# Altium integrated library FPGA Memories.IntLib: 600 symbols (part 1 of 6)
Pins are listed as number, name and electrical type; pins without a type are passive.

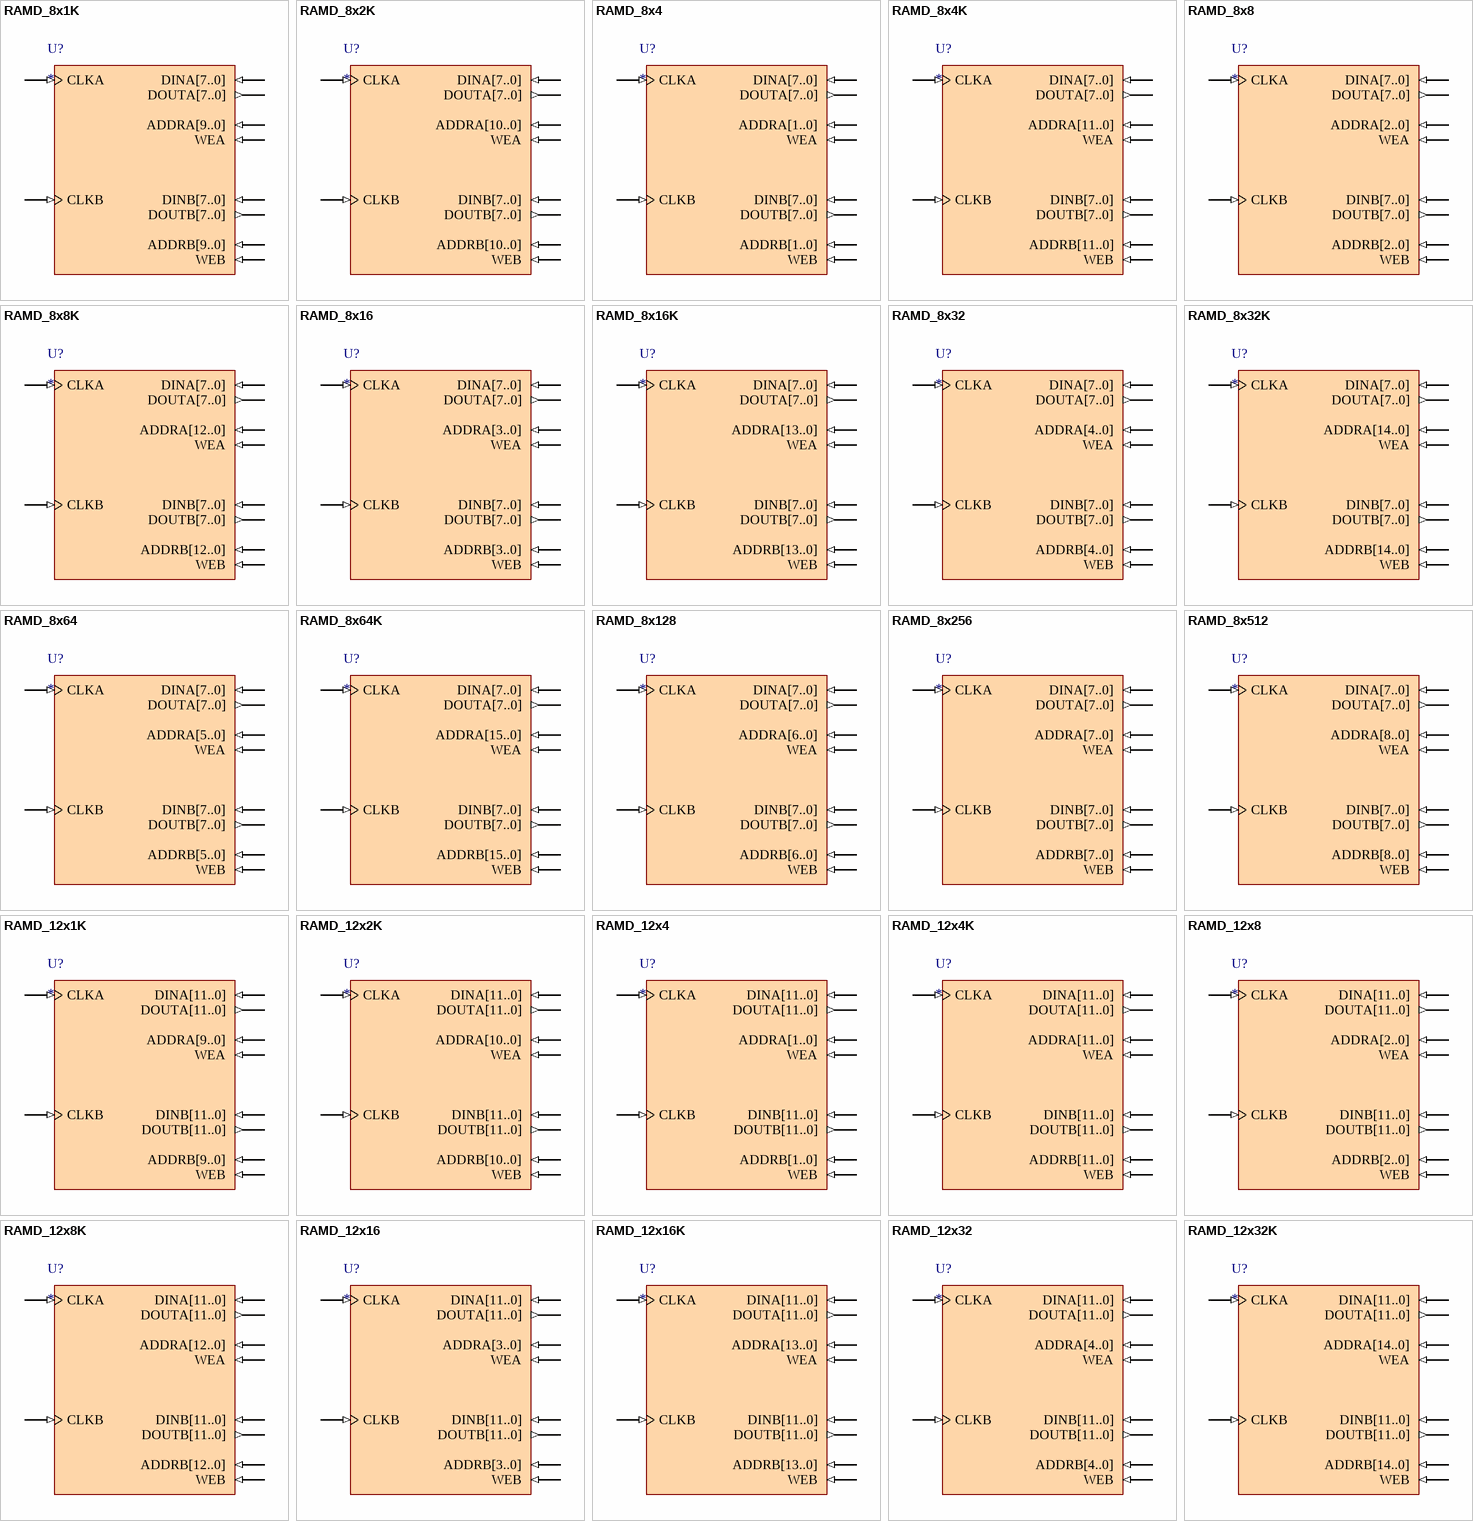
[diagram p0: symbols RAMD_8x1K to RAMD_12x32K]

## RAMD_8x1K
designator U?
Dual Port RAM; Memory_DepthA: 1024; Memory_Type: RAM_DualPortBlock; Memory_WidthA: 8; Memory_ClockEdge: Rising; Nexus_Core: Memory_Program; Memory_EnablePin: False; Published: 11/10/2004; Publisher: Altium Hobart Technology Center; Memory_DepthB: 1024; Memory_WidthB: 8; Memory_ByteWrites: False
pins: ADDRA[9..0] (in), ADDRB[9..0] (in), CLKA (in), CLKB (in), DINA[7..0] (in), DINB[7..0] (in), DOUTA[7..0] (out), DOUTB[7..0] (out), WEA (in), WEB (in)

## RAMD_8x2K
designator U?
Dual Port RAM; Memory_DepthA: 2048; Memory_Type: RAM_DualPortBlock; Memory_WidthA: 8; Memory_ClockEdge: Rising; Nexus_Core: Memory_Program; Memory_EnablePin: False; Published: 11/10/2004; Publisher: Altium Hobart Technology Center; Memory_DepthB: 2048; Memory_WidthB: 8; Memory_ByteWrites: False
pins: ADDRA[10..0] (in), ADDRB[10..0] (in), CLKA (in), CLKB (in), DINA[7..0] (in), DINB[7..0] (in), DOUTA[7..0] (out), DOUTB[7..0] (out), WEA (in), WEB (in)

## RAMD_8x4
designator U?
Dual Port RAM; Memory_DepthA: 4; Memory_Type: RAM_DualPortBlock; Memory_WidthA: 8; Memory_ClockEdge: Rising; Nexus_Core: Memory_Program; Memory_EnablePin: False; Published: 11/10/2004; Publisher: Altium Hobart Technology Center; Memory_DepthB: 4; Memory_WidthB: 8; Memory_ByteWrites: False
pins: ADDRA[1..0] (in), ADDRB[1..0] (in), CLKA (in), CLKB (in), DINA[7..0] (in), DINB[7..0] (in), DOUTA[7..0] (out), DOUTB[7..0] (out), WEA (in), WEB (in)

## RAMD_8x4K
designator U?
Dual Port RAM; Memory_DepthA: 4096; Memory_Type: RAM_DualPortBlock; Memory_WidthA: 8; Memory_ClockEdge: Rising; Nexus_Core: Memory_Program; Memory_EnablePin: False; Published: 11/10/2004; Publisher: Altium Hobart Technology Center; Memory_DepthB: 4096; Memory_WidthB: 8; Memory_ByteWrites: False
pins: ADDRA[11..0] (in), ADDRB[11..0] (in), CLKA (in), CLKB (in), DINA[7..0] (in), DINB[7..0] (in), DOUTA[7..0] (out), DOUTB[7..0] (out), WEA (in), WEB (in)

## RAMD_8x8
designator U?
Dual Port RAM; Memory_DepthA: 8; Memory_Type: RAM_DualPortBlock; Memory_ClockEdge: Rising; Nexus_Core: Memory_Program; Memory_EnablePin: False; Published: 11/10/2004; Publisher: Altium Hobart Technology Center; Memory_DepthB: 8; Memory_WidthA: 8; Memory_WidthB: 8; Memory_ByteWrites: False
pins: ADDRA[2..0] (in), ADDRB[2..0] (in), CLKA (in), CLKB (in), DINA[7..0] (in), DINB[7..0] (in), DOUTA[7..0] (out), DOUTB[7..0] (out), WEA (in), WEB (in)

## RAMD_8x8K
designator U?
Dual Port RAM; Memory_DepthA: 8192; Memory_Type: RAM_DualPortBlock; Memory_WidthA: 8; Memory_ClockEdge: Rising; Nexus_Core: Memory_Program; Memory_EnablePin: False; Published: 11/10/2004; Publisher: Altium Hobart Technology Center; Memory_DepthB: 8192; Memory_WidthB: 8; Memory_ByteWrites: False
pins: ADDRA[12..0] (in), ADDRB[12..0] (in), CLKA (in), CLKB (in), DINA[7..0] (in), DINB[7..0] (in), DOUTA[7..0] (out), DOUTB[7..0] (out), WEA (in), WEB (in)

## RAMD_8x16
designator U?
Dual Port RAM; Memory_DepthA: 16; Memory_Type: RAM_DualPortBlock; Memory_WidthA: 8; Memory_ClockEdge: Rising; Nexus_Core: Memory_Program; Memory_EnablePin: False; Published: 11/10/2004; Publisher: Altium Hobart Technology Center; Memory_DepthB: 16; Memory_WidthB: 8; Memory_ByteWrites: False
pins: ADDRA[3..0] (in), ADDRB[3..0] (in), CLKA (in), CLKB (in), DINA[7..0] (in), DINB[7..0] (in), DOUTA[7..0] (out), DOUTB[7..0] (out), WEA (in), WEB (in)

## RAMD_8x16K
designator U?
Dual Port RAM; Memory_DepthA: 16384; Memory_Type: RAM_DualPortBlock; Memory_WidthA: 8; Memory_ClockEdge: Rising; Nexus_Core: Memory_Program; Memory_EnablePin: False; Published: 11/10/2004; Publisher: Altium Hobart Technology Center; Memory_DepthB: 16384; Memory_WidthB: 8; Memory_ByteWrites: False
pins: ADDRA[13..0] (in), ADDRB[13..0] (in), CLKA (in), CLKB (in), DINA[7..0] (in), DINB[7..0] (in), DOUTA[7..0] (out), DOUTB[7..0] (out), WEA (in), WEB (in)

## RAMD_8x32
designator U?
Dual Port RAM; Memory_DepthA: 32; Memory_Type: RAM_DualPortBlock; Memory_WidthA: 8; Memory_ClockEdge: Rising; Nexus_Core: Memory_Program; Memory_EnablePin: False; Published: 11/10/2004; Publisher: Altium Hobart Technology Center; Memory_DepthB: 32; Memory_WidthB: 8; Memory_ByteWrites: False
pins: ADDRA[4..0] (in), ADDRB[4..0] (in), CLKA (in), CLKB (in), DINA[7..0] (in), DINB[7..0] (in), DOUTA[7..0] (out), DOUTB[7..0] (out), WEA (in), WEB (in)

## RAMD_8x32K
designator U?
Dual Port RAM; Memory_DepthA: 32768; Memory_Type: RAM_DualPortBlock; Memory_WidthA: 8; Memory_ClockEdge: Rising; Nexus_Core: Memory_Program; Memory_EnablePin: False; Published: 11/10/2004; Publisher: Altium Hobart Technology Center; Memory_DepthB: 32768; Memory_WidthB: 8; Memory_ByteWrites: False
pins: ADDRA[14..0] (in), ADDRB[14..0] (in), CLKA (in), CLKB (in), DINA[7..0] (in), DINB[7..0] (in), DOUTA[7..0] (out), DOUTB[7..0] (out), WEA (in), WEB (in)

## RAMD_8x64
designator U?
Dual Port RAM; Memory_DepthA: 64; Memory_Type: RAM_DualPortBlock; Memory_WidthA: 8; Memory_ClockEdge: Rising; Nexus_Core: Memory_Program; Memory_EnablePin: False; Published: 11/10/2004; Publisher: Altium Hobart Technology Center; Memory_DepthB: 64; Memory_WidthB: 8; Memory_ByteWrites: False
pins: ADDRA[5..0] (in), ADDRB[5..0] (in), CLKA (in), CLKB (in), DINA[7..0] (in), DINB[7..0] (in), DOUTA[7..0] (out), DOUTB[7..0] (out), WEA (in), WEB (in)

## RAMD_8x64K
designator U?
Dual Port RAM; Memory_DepthA: 65536; Memory_Type: RAM_DualPortBlock; Memory_WidthA: 8; Memory_ClockEdge: Rising; Nexus_Core: Memory_Program; Memory_EnablePin: False; Published: 11/10/2004; Publisher: Altium Hobart Technology Center; Memory_DepthB: 65536; Memory_WidthB: 8; Memory_ByteWrites: False
pins: ADDRA[15..0] (in), ADDRB[15..0] (in), CLKA (in), CLKB (in), DINA[7..0] (in), DINB[7..0] (in), DOUTA[7..0] (out), DOUTB[7..0] (out), WEA (in), WEB (in)

## RAMD_8x128
designator U?
Dual Port RAM; Memory_DepthA: 128; Memory_Type: RAM_DualPortBlock; Memory_WidthA: 8; Memory_ClockEdge: Rising; Nexus_Core: Memory_Program; Memory_EnablePin: False; Published: 11/10/2004; Publisher: Altium Hobart Technology Center; Memory_DepthB: 128; Memory_WidthB: 8; Memory_ByteWrites: False
pins: ADDRA[6..0] (in), ADDRB[6..0] (in), CLKA (in), CLKB (in), DINA[7..0] (in), DINB[7..0] (in), DOUTA[7..0] (out), DOUTB[7..0] (out), WEA (in), WEB (in)

## RAMD_8x256
designator U?
Dual Port RAM; Memory_DepthA: 256; Memory_Type: RAM_DualPortBlock; Memory_WidthA: 8; Memory_ClockEdge: Rising; Nexus_Core: Memory_Program; Memory_EnablePin: False; Published: 11/10/2004; Publisher: Altium Hobart Technology Center; Memory_DepthB: 256; Memory_WidthB: 8; Memory_ByteWrites: False
pins: ADDRA[7..0] (in), ADDRB[7..0] (in), CLKA (in), CLKB (in), DINA[7..0] (in), DINB[7..0] (in), DOUTA[7..0] (out), DOUTB[7..0] (out), WEA (in), WEB (in)

## RAMD_8x512
designator U?
Dual Port RAM; Memory_DepthA: 512; Memory_Type: RAM_DualPortBlock; Memory_WidthA: 8; Memory_ClockEdge: Rising; Nexus_Core: Memory_Program; Memory_EnablePin: False; Published: 11/10/2004; Publisher: Altium Hobart Technology Center; Memory_DepthB: 512; Memory_WidthB: 8; Memory_ByteWrites: False
pins: ADDRA[8..0] (in), ADDRB[8..0] (in), CLKA (in), CLKB (in), DINA[7..0] (in), DINB[7..0] (in), DOUTA[7..0] (out), DOUTB[7..0] (out), WEA (in), WEB (in)

## RAMD_12x1K
designator U?
Dual Port RAM; Memory_DepthA: 1024; Memory_Type: RAM_DualPortBlock; Memory_WidthA: 12; Memory_ClockEdge: Rising; Nexus_Core: Memory_Program; Memory_EnablePin: False; Published: 11/10/2004; Publisher: Altium Hobart Technology Center; Memory_DepthB: 1024; Memory_WidthB: 12; Memory_ByteWrites: False
pins: ADDRA[9..0] (in), ADDRB[9..0] (in), CLKA (in), CLKB (in), DINA[11..0] (in), DINB[11..0] (in), DOUTA[11..0] (out), DOUTB[11..0] (out), WEA (in), WEB (in)

## RAMD_12x2K
designator U?
Dual Port RAM; Memory_DepthA: 2048; Memory_Type: RAM_DualPortBlock; Memory_WidthA: 12; Memory_ClockEdge: Rising; Nexus_Core: Memory_Program; Memory_EnablePin: False; Published: 11/10/2004; Publisher: Altium Hobart Technology Center; Memory_DepthB: 2048; Memory_WidthB: 12; Memory_ByteWrites: False
pins: ADDRA[10..0] (in), ADDRB[10..0] (in), CLKA (in), CLKB (in), DINA[11..0] (in), DINB[11..0] (in), DOUTA[11..0] (out), DOUTB[11..0] (out), WEA (in), WEB (in)

## RAMD_12x4
designator U?
Dual Port RAM; Memory_DepthA: 4; Memory_Type: RAM_DualPortBlock; Memory_WidthA: 12; Memory_ClockEdge: Rising; Nexus_Core: Memory_Program; Memory_EnablePin: False; Published: 11/10/2004; Publisher: Altium Hobart Technology Center; Memory_DepthB: 4; Memory_WidthB: 12; Memory_ByteWrites: False
pins: ADDRA[1..0] (in), ADDRB[1..0] (in), CLKA (in), CLKB (in), DINA[11..0] (in), DINB[11..0] (in), DOUTA[11..0] (out), DOUTB[11..0] (out), WEA (in), WEB (in)

## RAMD_12x4K
designator U?
Dual Port RAM; Memory_DepthA: 4096; Memory_Type: RAM_DualPortBlock; Memory_WidthA: 12; Memory_ClockEdge: Rising; Nexus_Core: Memory_Program; Memory_EnablePin: False; Published: 11/10/2004; Publisher: Altium Hobart Technology Center; Memory_DepthB: 4096; Memory_WidthB: 12; Memory_ByteWrites: False
pins: ADDRA[11..0] (in), ADDRB[11..0] (in), CLKA (in), CLKB (in), DINA[11..0] (in), DINB[11..0] (in), DOUTA[11..0] (out), DOUTB[11..0] (out), WEA (in), WEB (in)

## RAMD_12x8
designator U?
Dual Port RAM; Memory_DepthA: 8; Memory_Type: RAM_DualPortBlock; Memory_WidthA: 12; Memory_ClockEdge: Rising; Nexus_Core: Memory_Program; Memory_EnablePin: False; Published: 11/10/2004; Publisher: Altium Hobart Technology Center; Memory_DepthB: 8; Memory_WidthB: 12; Memory_ByteWrites: False
pins: ADDRA[2..0] (in), ADDRB[2..0] (in), CLKA (in), CLKB (in), DINA[11..0] (in), DINB[11..0] (in), DOUTA[11..0] (out), DOUTB[11..0] (out), WEA (in), WEB (in)

## RAMD_12x8K
designator U?
Dual Port RAM; Memory_DepthA: 8192; Memory_Type: RAM_DualPortBlock; Memory_WidthA: 12; Memory_ClockEdge: Rising; Nexus_Core: Memory_Program; Memory_EnablePin: False; Published: 11/10/2004; Publisher: Altium Hobart Technology Center; Memory_DepthB: 8192; Memory_WidthB: 12; Memory_ByteWrites: False
pins: ADDRA[12..0] (in), ADDRB[12..0] (in), CLKA (in), CLKB (in), DINA[11..0] (in), DINB[11..0] (in), DOUTA[11..0] (out), DOUTB[11..0] (out), WEA (in), WEB (in)

## RAMD_12x16
designator U?
Dual Port RAM; Memory_DepthA: 16; Memory_Type: RAM_DualPortBlock; Memory_WidthA: 12; Memory_ClockEdge: Rising; Nexus_Core: Memory_Program; Memory_EnablePin: False; Published: 11/10/2004; Publisher: Altium Hobart Technology Center; Memory_DepthB: 16; Memory_WidthB: 12; Memory_ByteWrites: False
pins: ADDRA[3..0] (in), ADDRB[3..0] (in), CLKA (in), CLKB (in), DINA[11..0] (in), DINB[11..0] (in), DOUTA[11..0] (out), DOUTB[11..0] (out), WEA (in), WEB (in)

## RAMD_12x16K
designator U?
Dual Port RAM; Memory_DepthA: 16384; Memory_Type: RAM_DualPortBlock; Memory_WidthA: 12; Memory_ClockEdge: Rising; Nexus_Core: Memory_Program; Memory_EnablePin: False; Published: 11/10/2004; Publisher: Altium Hobart Technology Center; Memory_DepthB: 16384; Memory_WidthB: 12; Memory_ByteWrites: False
pins: ADDRA[13..0] (in), ADDRB[13..0] (in), CLKA (in), CLKB (in), DINA[11..0] (in), DINB[11..0] (in), DOUTA[11..0] (out), DOUTB[11..0] (out), WEA (in), WEB (in)

## RAMD_12x32
designator U?
Dual Port RAM; Memory_DepthA: 32; Memory_Type: RAM_DualPortBlock; Memory_WidthA: 12; Memory_ClockEdge: Rising; Nexus_Core: Memory_Program; Memory_EnablePin: False; Published: 11/10/2004; Publisher: Altium Hobart Technology Center; Memory_DepthB: 32; Memory_WidthB: 12; Memory_ByteWrites: False
pins: ADDRA[4..0] (in), ADDRB[4..0] (in), CLKA (in), CLKB (in), DINA[11..0] (in), DINB[11..0] (in), DOUTA[11..0] (out), DOUTB[11..0] (out), WEA (in), WEB (in)

## RAMD_12x32K
designator U?
Dual Port RAM; Memory_DepthA: 32768; Memory_Type: RAM_DualPortBlock; Memory_WidthA: 12; Memory_ClockEdge: Rising; Nexus_Core: Memory_Program; Memory_EnablePin: False; Published: 11/10/2004; Publisher: Altium Hobart Technology Center; Memory_DepthB: 32768; Memory_WidthB: 12; Memory_ByteWrites: False
pins: ADDRA[14..0] (in), ADDRB[14..0] (in), CLKA (in), CLKB (in), DINA[11..0] (in), DINB[11..0] (in), DOUTA[11..0] (out), DOUTB[11..0] (out), WEA (in), WEB (in)

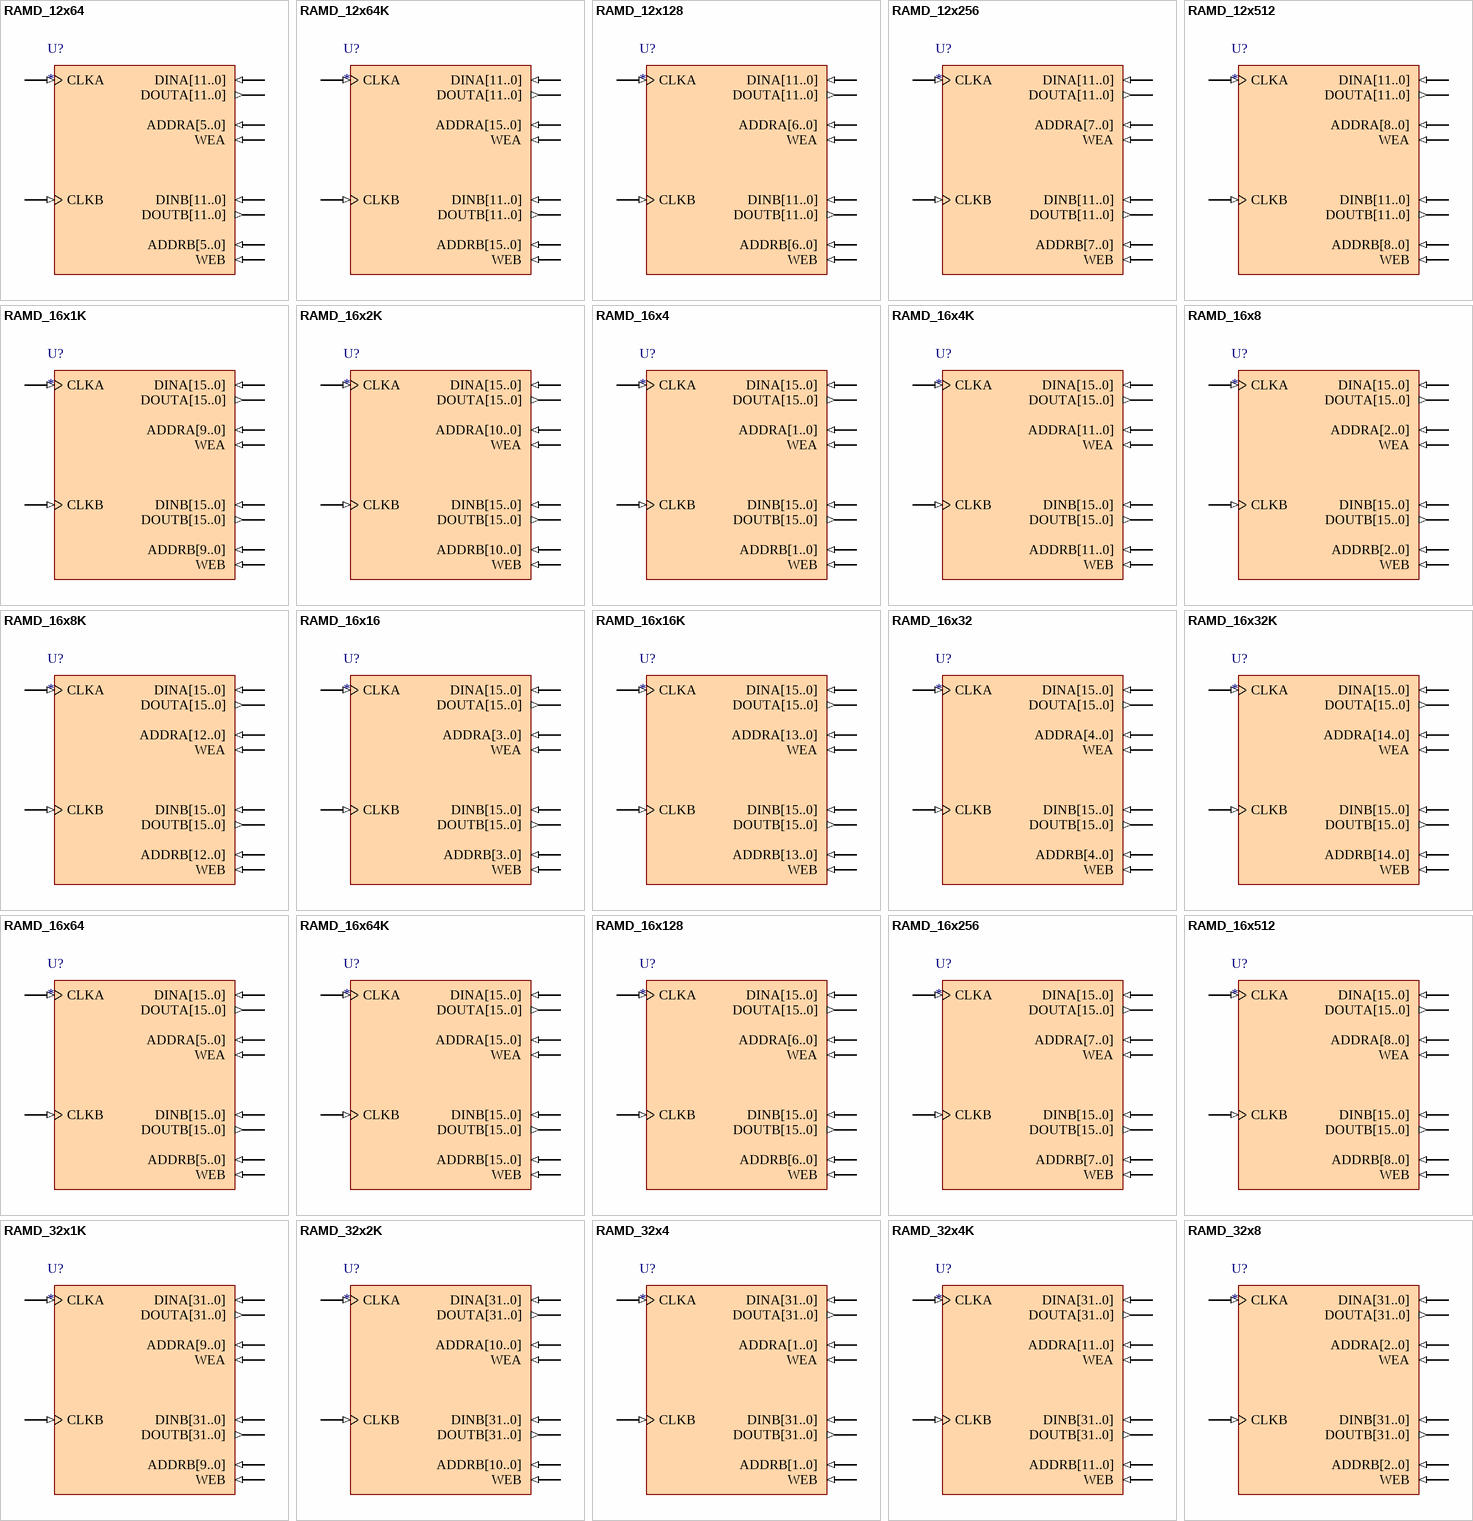
[diagram p1: symbols RAMD_12x64 to RAMD_32x8]

## RAMD_12x64
designator U?
Dual Port RAM; Memory_DepthA: 64; Memory_Type: RAM_DualPortBlock; Memory_WidthA: 12; Memory_ClockEdge: Rising; Nexus_Core: Memory_Program; Memory_EnablePin: False; Published: 11/10/2004; Publisher: Altium Hobart Technology Center; Memory_DepthB: 64; Memory_WidthB: 12; Memory_ByteWrites: False
pins: ADDRA[5..0] (in), ADDRB[5..0] (in), CLKA (in), CLKB (in), DINA[11..0] (in), DINB[11..0] (in), DOUTA[11..0] (out), DOUTB[11..0] (out), WEA (in), WEB (in)

## RAMD_12x64K
designator U?
Dual Port RAM; Memory_DepthA: 65536; Memory_Type: RAM_DualPortBlock; Memory_WidthA: 12; Memory_ClockEdge: Rising; Nexus_Core: Memory_Program; Memory_EnablePin: False; Published: 11/10/2004; Publisher: Altium Hobart Technology Center; Memory_DepthB: 65536; Memory_WidthB: 12; Memory_ByteWrites: False
pins: ADDRA[15..0] (in), ADDRB[15..0] (in), CLKA (in), CLKB (in), DINA[11..0] (in), DINB[11..0] (in), DOUTA[11..0] (out), DOUTB[11..0] (out), WEA (in), WEB (in)

## RAMD_12x128
designator U?
Dual Port RAM; Memory_DepthA: 128; Memory_Type: RAM_DualPortBlock; Memory_WidthA: 12; Memory_ClockEdge: Rising; Nexus_Core: Memory_Program; Memory_EnablePin: False; Published: 11/10/2004; Publisher: Altium Hobart Technology Center; Memory_DepthB: 128; Memory_WidthB: 12; Memory_ByteWrites: False
pins: ADDRA[6..0] (in), ADDRB[6..0] (in), CLKA (in), CLKB (in), DINA[11..0] (in), DINB[11..0] (in), DOUTA[11..0] (out), DOUTB[11..0] (out), WEA (in), WEB (in)

## RAMD_12x256
designator U?
Dual Port RAM; Memory_DepthA: 256; Memory_Type: RAM_DualPortBlock; Memory_WidthA: 12; Memory_ClockEdge: Rising; Nexus_Core: Memory_Program; Memory_EnablePin: False; Published: 11/10/2004; Publisher: Altium Hobart Technology Center; Memory_DepthB: 256; Memory_WidthB: 12; Memory_ByteWrites: False
pins: ADDRA[7..0] (in), ADDRB[7..0] (in), CLKA (in), CLKB (in), DINA[11..0] (in), DINB[11..0] (in), DOUTA[11..0] (out), DOUTB[11..0] (out), WEA (in), WEB (in)

## RAMD_12x512
designator U?
Dual Port RAM; Memory_DepthA: 512; Memory_Type: RAM_DualPortBlock; Memory_WidthA: 12; Memory_ClockEdge: Rising; Nexus_Core: Memory_Program; Memory_EnablePin: False; Published: 11/10/2004; Publisher: Altium Hobart Technology Center; Memory_DepthB: 512; Memory_WidthB: 12; Memory_ByteWrites: False
pins: ADDRA[8..0] (in), ADDRB[8..0] (in), CLKA (in), CLKB (in), DINA[11..0] (in), DINB[11..0] (in), DOUTA[11..0] (out), DOUTB[11..0] (out), WEA (in), WEB (in)

## RAMD_16x1K
designator U?
Dual Port RAM; Memory_DepthA: 1024; Memory_Type: RAM_DualPortBlock; Memory_WidthA: 16; Memory_ClockEdge: Rising; Nexus_Core: Memory_Program; Memory_EnablePin: False; Published: 11/10/2004; Publisher: Altium Hobart Technology Center; Memory_DepthB: 1024; Memory_WidthB: 16; Memory_ByteWrites: False
pins: ADDRA[9..0] (in), ADDRB[9..0] (in), CLKA (in), CLKB (in), DINA[15..0] (in), DINB[15..0] (in), DOUTA[15..0] (out), DOUTB[15..0] (out), WEA (in), WEB (in)

## RAMD_16x2K
designator U?
Dual Port RAM; Memory_DepthA: 2048; Memory_Type: RAM_DualPortBlock; Memory_WidthA: 16; Memory_ClockEdge: Rising; Nexus_Core: Memory_Program; Memory_EnablePin: False; Published: 11/10/2004; Publisher: Altium Hobart Technology Center; Memory_DepthB: 2048; Memory_WidthB: 16; Memory_ByteWrites: False
pins: ADDRA[10..0] (in), ADDRB[10..0] (in), CLKA (in), CLKB (in), DINA[15..0] (in), DINB[15..0] (in), DOUTA[15..0] (out), DOUTB[15..0] (out), WEA (in), WEB (in)

## RAMD_16x4
designator U?
Dual Port RAM; Memory_DepthA: 4; Memory_Type: RAM_DualPortBlock; Memory_WidthA: 16; Memory_ClockEdge: Rising; Nexus_Core: Memory_Program; Memory_EnablePin: False; Published: 11/10/2004; Publisher: Altium Hobart Technology Center; Memory_DepthB: 4; Memory_WidthB: 16; Memory_ByteWrites: False
pins: ADDRA[1..0] (in), ADDRB[1..0] (in), CLKA (in), CLKB (in), DINA[15..0] (in), DINB[15..0] (in), DOUTA[15..0] (out), DOUTB[15..0] (out), WEA (in), WEB (in)

## RAMD_16x4K
designator U?
Dual Port RAM; Memory_DepthA: 4096; Memory_Type: RAM_DualPortBlock; Memory_WidthA: 16; Memory_ClockEdge: Rising; Nexus_Core: Memory_Program; Memory_EnablePin: False; Published: 11/10/2004; Publisher: Altium Hobart Technology Center; Memory_DepthB: 4096; Memory_WidthB: 16; Memory_ByteWrites: False
pins: ADDRA[11..0] (in), ADDRB[11..0] (in), CLKA (in), CLKB (in), DINA[15..0] (in), DINB[15..0] (in), DOUTA[15..0] (out), DOUTB[15..0] (out), WEA (in), WEB (in)

## RAMD_16x8
designator U?
Dual Port RAM; Memory_DepthA: 8; Memory_Type: RAM_DualPortBlock; Memory_WidthA: 16; Memory_ClockEdge: Rising; Nexus_Core: Memory_Program; Memory_EnablePin: False; Published: 11/10/2004; Publisher: Altium Hobart Technology Center; Memory_DepthB: 8; Memory_WidthB: 16; Memory_ByteWrites: False
pins: ADDRA[2..0] (in), ADDRB[2..0] (in), CLKA (in), CLKB (in), DINA[15..0] (in), DINB[15..0] (in), DOUTA[15..0] (out), DOUTB[15..0] (out), WEA (in), WEB (in)

## RAMD_16x8K
designator U?
Dual Port RAM; Memory_DepthA: 8192; Memory_Type: RAM_DualPortBlock; Memory_WidthA: 16; Memory_ClockEdge: Rising; Nexus_Core: Memory_Program; Memory_EnablePin: False; Published: 11/10/2004; Publisher: Altium Hobart Technology Center; Memory_DepthB: 8192; Memory_WidthB: 16; Memory_ByteWrites: False
pins: ADDRA[12..0] (in), ADDRB[12..0] (in), CLKA (in), CLKB (in), DINA[15..0] (in), DINB[15..0] (in), DOUTA[15..0] (out), DOUTB[15..0] (out), WEA (in), WEB (in)

## RAMD_16x16
designator U?
Dual Port RAM; Memory_DepthA: 16; Memory_Type: RAM_DualPortBlock; Memory_ClockEdge: Rising; Nexus_Core: Memory_Program; Memory_EnablePin: False; Published: 11/10/2004; Publisher: Altium Hobart Technology Center; Memory_DepthB: 16; Memory_WidthA: 16; Memory_WidthB: 16; Memory_ByteWrites: False
pins: ADDRA[3..0] (in), ADDRB[3..0] (in), CLKA (in), CLKB (in), DINA[15..0] (in), DINB[15..0] (in), DOUTA[15..0] (out), DOUTB[15..0] (out), WEA (in), WEB (in)

## RAMD_16x16K
designator U?
Dual Port RAM; Memory_DepthA: 16384; Memory_Type: RAM_DualPortBlock; Memory_WidthA: 16; Memory_ClockEdge: Rising; Nexus_Core: Memory_Program; Memory_EnablePin: False; Published: 11/10/2004; Publisher: Altium Hobart Technology Center; Memory_DepthB: 16384; Memory_WidthB: 16; Memory_ByteWrites: False
pins: ADDRA[13..0] (in), ADDRB[13..0] (in), CLKA (in), CLKB (in), DINA[15..0] (in), DINB[15..0] (in), DOUTA[15..0] (out), DOUTB[15..0] (out), WEA (in), WEB (in)

## RAMD_16x32
designator U?
Dual Port RAM; Memory_DepthA: 32; Memory_Type: RAM_DualPortBlock; Memory_WidthA: 16; Memory_ClockEdge: Rising; Nexus_Core: Memory_Program; Memory_EnablePin: False; Published: 11/10/2004; Publisher: Altium Hobart Technology Center; Memory_DepthB: 32; Memory_WidthB: 16; Memory_ByteWrites: False
pins: ADDRA[4..0] (in), ADDRB[4..0] (in), CLKA (in), CLKB (in), DINA[15..0] (in), DINB[15..0] (in), DOUTA[15..0] (out), DOUTB[15..0] (out), WEA (in), WEB (in)

## RAMD_16x32K
designator U?
Dual Port RAM; Memory_DepthA: 32768; Memory_Type: RAM_DualPortBlock; Memory_WidthA: 16; Memory_ClockEdge: Rising; Nexus_Core: Memory_Program; Memory_EnablePin: False; Published: 11/10/2004; Publisher: Altium Hobart Technology Center; Memory_DepthB: 32768; Memory_WidthB: 16; Memory_ByteWrites: False
pins: ADDRA[14..0] (in), ADDRB[14..0] (in), CLKA (in), CLKB (in), DINA[15..0] (in), DINB[15..0] (in), DOUTA[15..0] (out), DOUTB[15..0] (out), WEA (in), WEB (in)

## RAMD_16x64
designator U?
Dual Port RAM; Memory_DepthA: 64; Memory_Type: RAM_DualPortBlock; Memory_WidthA: 16; Memory_ClockEdge: Rising; Nexus_Core: Memory_Program; Memory_EnablePin: False; Published: 11/10/2004; Publisher: Altium Hobart Technology Center; Memory_DepthB: 64; Memory_WidthB: 16; Memory_ByteWrites: False
pins: ADDRA[5..0] (in), ADDRB[5..0] (in), CLKA (in), CLKB (in), DINA[15..0] (in), DINB[15..0] (in), DOUTA[15..0] (out), DOUTB[15..0] (out), WEA (in), WEB (in)

## RAMD_16x64K
designator U?
Dual Port RAM; Memory_DepthA: 65536; Memory_Type: RAM_DualPortBlock; Memory_WidthA: 16; Memory_ClockEdge: Rising; Nexus_Core: Memory_Program; Memory_EnablePin: False; Published: 11/10/2004; Publisher: Altium Hobart Technology Center; Memory_DepthB: 65536; Memory_WidthB: 16; Memory_ByteWrites: False
pins: ADDRA[15..0] (in), ADDRB[15..0] (in), CLKA (in), CLKB (in), DINA[15..0] (in), DINB[15..0] (in), DOUTA[15..0] (out), DOUTB[15..0] (out), WEA (in), WEB (in)

## RAMD_16x128
designator U?
Dual Port RAM; Memory_DepthA: 128; Memory_Type: RAM_DualPortBlock; Memory_WidthA: 16; Memory_ClockEdge: Rising; Nexus_Core: Memory_Program; Memory_EnablePin: False; Published: 11/10/2004; Publisher: Altium Hobart Technology Center; Memory_DepthB: 128; Memory_WidthB: 16; Memory_ByteWrites: False
pins: ADDRA[6..0] (in), ADDRB[6..0] (in), CLKA (in), CLKB (in), DINA[15..0] (in), DINB[15..0] (in), DOUTA[15..0] (out), DOUTB[15..0] (out), WEA (in), WEB (in)

## RAMD_16x256
designator U?
Dual Port RAM; Memory_DepthA: 256; Memory_Type: RAM_DualPortBlock; Memory_WidthA: 16; Memory_ClockEdge: Rising; Nexus_Core: Memory_Program; Memory_EnablePin: False; Published: 11/10/2004; Publisher: Altium Hobart Technology Center; Memory_DepthB: 256; Memory_WidthB: 16; Memory_ByteWrites: False
pins: ADDRA[7..0] (in), ADDRB[7..0] (in), CLKA (in), CLKB (in), DINA[15..0] (in), DINB[15..0] (in), DOUTA[15..0] (out), DOUTB[15..0] (out), WEA (in), WEB (in)

## RAMD_16x512
designator U?
Dual Port RAM; Memory_DepthA: 512; Memory_Type: RAM_DualPortBlock; Memory_WidthA: 16; Memory_ClockEdge: Rising; Nexus_Core: Memory_Program; Memory_EnablePin: False; Published: 11/10/2004; Publisher: Altium Hobart Technology Center; Memory_DepthB: 512; Memory_WidthB: 16; Memory_ByteWrites: False
pins: ADDRA[8..0] (in), ADDRB[8..0] (in), CLKA (in), CLKB (in), DINA[15..0] (in), DINB[15..0] (in), DOUTA[15..0] (out), DOUTB[15..0] (out), WEA (in), WEB (in)

## RAMD_32x1K
designator U?
Dual Port RAM; Memory_DepthA: 1024; Memory_Type: RAM_DualPortBlock; Memory_WidthA: 32; Memory_ClockEdge: Rising; Nexus_Core: Memory_Program; Memory_EnablePin: False; Published: 11/10/2004; Publisher: Altium Hobart Technology Center; Memory_DepthB: 1024; Memory_WidthB: 32; Memory_ByteWrites: False
pins: ADDRA[9..0] (in), ADDRB[9..0] (in), CLKA (in), CLKB (in), DINA[31..0] (in), DINB[31..0] (in), DOUTA[31..0] (out), DOUTB[31..0] (out), WEA (in), WEB (in)

## RAMD_32x2K
designator U?
Dual Port RAM; Memory_DepthA: 2048; Memory_Type: RAM_DualPortBlock; Memory_WidthA: 32; Memory_ClockEdge: Rising; Nexus_Core: Memory_Program; Memory_EnablePin: False; Published: 11/10/2004; Publisher: Altium Hobart Technology Center; Memory_DepthB: 2048; Memory_WidthB: 32; Memory_ByteWrites: False
pins: ADDRA[10..0] (in), ADDRB[10..0] (in), CLKA (in), CLKB (in), DINA[31..0] (in), DINB[31..0] (in), DOUTA[31..0] (out), DOUTB[31..0] (out), WEA (in), WEB (in)

## RAMD_32x4
designator U?
Dual Port RAM; Memory_DepthA: 4; Memory_Type: RAM_DualPortBlock; Memory_WidthA: 32; Memory_ClockEdge: Rising; Nexus_Core: Memory_Program; Memory_EnablePin: False; Published: 11/10/2004; Publisher: Altium Hobart Technology Center; Memory_DepthB: 4; Memory_WidthB: 32; Memory_ByteWrites: False
pins: ADDRA[1..0] (in), ADDRB[1..0] (in), CLKA (in), CLKB (in), DINA[31..0] (in), DINB[31..0] (in), DOUTA[31..0] (out), DOUTB[31..0] (out), WEA (in), WEB (in)

## RAMD_32x4K
designator U?
Dual Port RAM; Memory_DepthA: 4096; Memory_Type: RAM_DualPortBlock; Memory_WidthA: 32; Memory_ClockEdge: Rising; Nexus_Core: Memory_Program; Memory_EnablePin: False; Published: 11/10/2004; Publisher: Altium Hobart Technology Center; Memory_DepthB: 4096; Memory_WidthB: 32; Memory_ByteWrites: False
pins: ADDRA[11..0] (in), ADDRB[11..0] (in), CLKA (in), CLKB (in), DINA[31..0] (in), DINB[31..0] (in), DOUTA[31..0] (out), DOUTB[31..0] (out), WEA (in), WEB (in)

## RAMD_32x8
designator U?
Dual Port RAM; Memory_DepthA: 8; Memory_Type: RAM_DualPortBlock; Memory_WidthA: 32; Memory_ClockEdge: Rising; Nexus_Core: Memory_Program; Memory_EnablePin: False; Published: 11/10/2004; Publisher: Altium Hobart Technology Center; Memory_DepthB: 8; Memory_WidthB: 32; Memory_ByteWrites: False
pins: ADDRA[2..0] (in), ADDRB[2..0] (in), CLKA (in), CLKB (in), DINA[31..0] (in), DINB[31..0] (in), DOUTA[31..0] (out), DOUTB[31..0] (out), WEA (in), WEB (in)

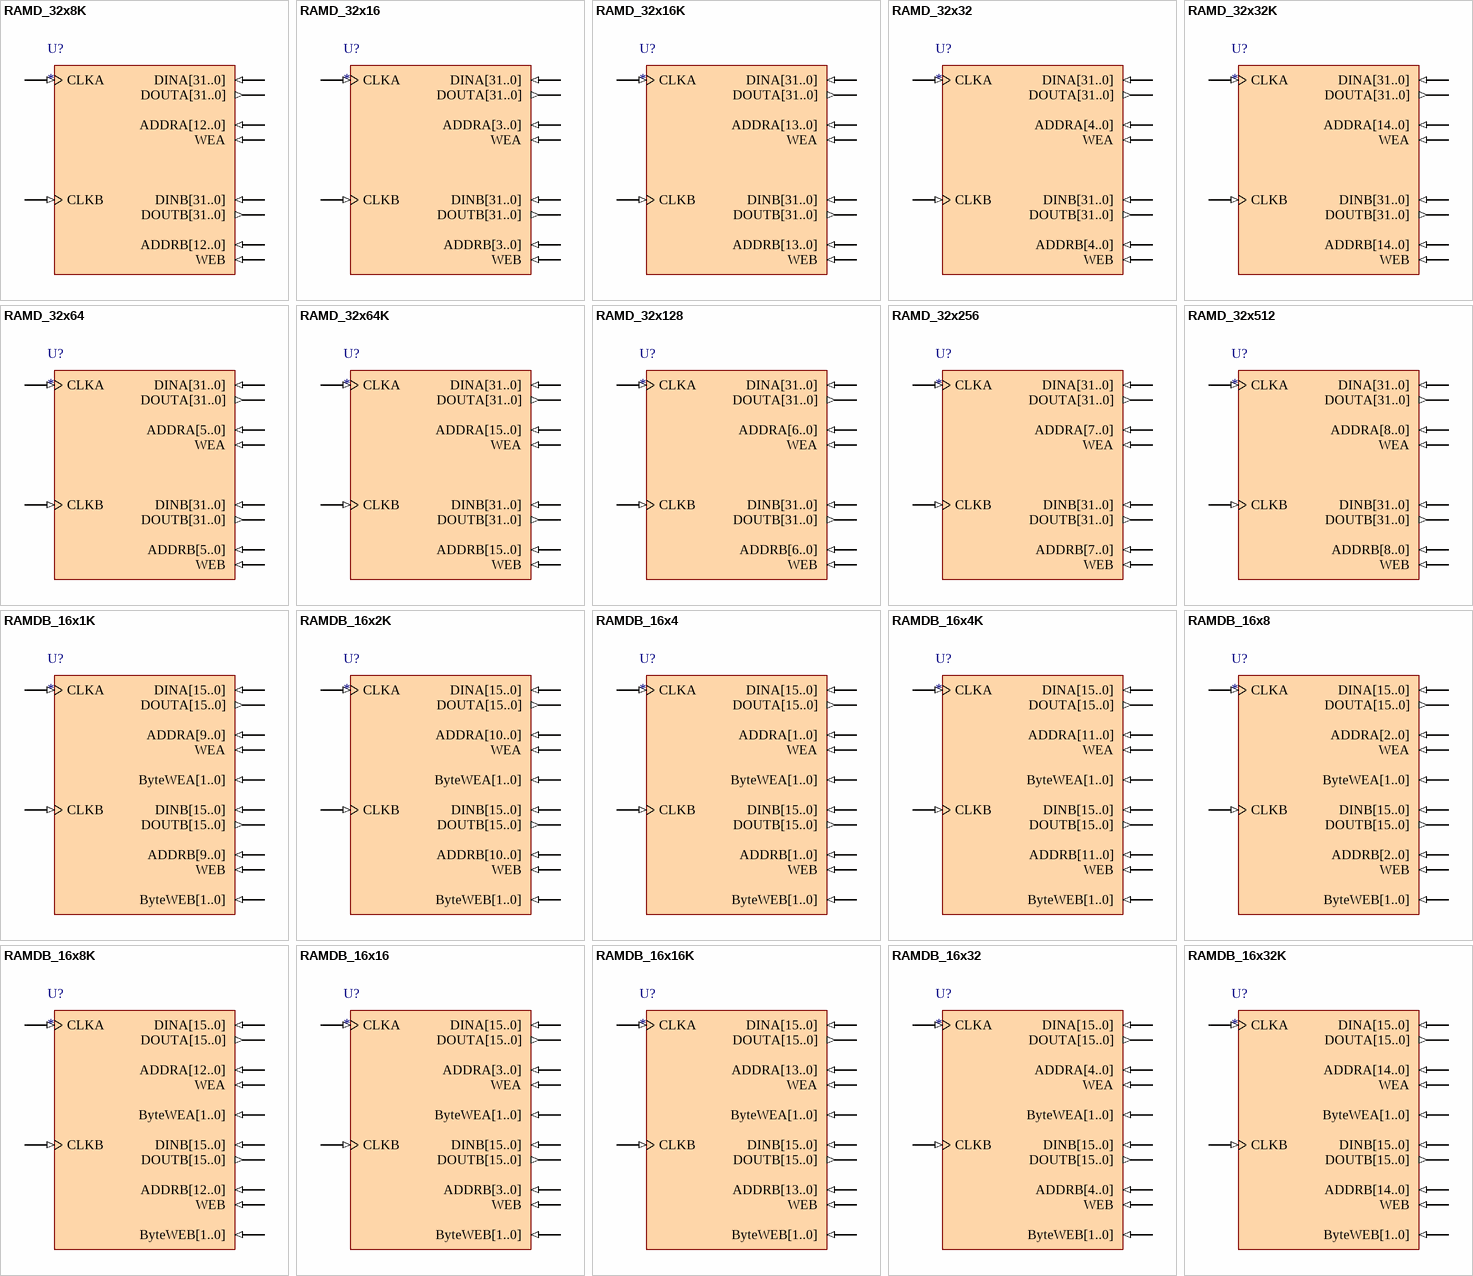
[diagram p2: symbols RAMD_32x8K to RAMDB_16x32K]

## RAMD_32x8K
designator U?
Dual Port RAM; Memory_DepthA: 8192; Memory_Type: RAM_DualPortBlock; Memory_WidthA: 32; Memory_ClockEdge: Rising; Nexus_Core: Memory_Program; Memory_EnablePin: False; Published: 11/10/2004; Publisher: Altium Hobart Technology Center; Memory_DepthB: 8192; Memory_WidthB: 32; Memory_ByteWrites: False
pins: ADDRA[12..0] (in), ADDRB[12..0] (in), CLKA (in), CLKB (in), DINA[31..0] (in), DINB[31..0] (in), DOUTA[31..0] (out), DOUTB[31..0] (out), WEA (in), WEB (in)

## RAMD_32x16
designator U?
Dual Port RAM; Memory_DepthA: 16; Memory_Type: RAM_DualPortBlock; Memory_WidthA: 32; Memory_ClockEdge: Rising; Nexus_Core: Memory_Program; Memory_EnablePin: False; Published: 11/10/2004; Publisher: Altium Hobart Technology Center; Memory_DepthB: 16; Memory_WidthB: 32; Memory_ByteWrites: False
pins: ADDRA[3..0] (in), ADDRB[3..0] (in), CLKA (in), CLKB (in), DINA[31..0] (in), DINB[31..0] (in), DOUTA[31..0] (out), DOUTB[31..0] (out), WEA (in), WEB (in)

## RAMD_32x16K
designator U?
Dual Port RAM; Memory_DepthA: 16384; Memory_Type: RAM_DualPortBlock; Memory_WidthA: 32; Memory_ClockEdge: Rising; Nexus_Core: Memory_Program; Memory_EnablePin: False; Published: 11/10/2004; Publisher: Altium Hobart Technology Center; Memory_DepthB: 16384; Memory_WidthB: 32; Memory_ByteWrites: False
pins: ADDRA[13..0] (in), ADDRB[13..0] (in), CLKA (in), CLKB (in), DINA[31..0] (in), DINB[31..0] (in), DOUTA[31..0] (out), DOUTB[31..0] (out), WEA (in), WEB (in)

## RAMD_32x32
designator U?
Dual Port RAM; Memory_DepthA: 32; Memory_Type: RAM_DualPortBlock; Memory_ClockEdge: Rising; Nexus_Core: Memory_Program; Memory_EnablePin: False; Published: 11/10/2004; Publisher: Altium Hobart Technology Center; Memory_DepthB: 32; Memory_WidthA: 32; Memory_WidthB: 32; Memory_ByteWrites: False
pins: ADDRA[4..0] (in), ADDRB[4..0] (in), CLKA (in), CLKB (in), DINA[31..0] (in), DINB[31..0] (in), DOUTA[31..0] (out), DOUTB[31..0] (out), WEA (in), WEB (in)

## RAMD_32x32K
designator U?
Dual Port RAM; Memory_DepthA: 32768; Memory_Type: RAM_DualPortBlock; Memory_WidthA: 32; Memory_ClockEdge: Rising; Nexus_Core: Memory_Program; Memory_EnablePin: False; Published: 11/10/2004; Publisher: Altium Hobart Technology Center; Memory_DepthB: 32768; Memory_WidthB: 32; Memory_ByteWrites: False
pins: ADDRA[14..0] (in), ADDRB[14..0] (in), CLKA (in), CLKB (in), DINA[31..0] (in), DINB[31..0] (in), DOUTA[31..0] (out), DOUTB[31..0] (out), WEA (in), WEB (in)

## RAMD_32x64
designator U?
Dual Port RAM; Memory_DepthA: 64; Memory_Type: RAM_DualPortBlock; Memory_WidthA: 32; Memory_ClockEdge: Rising; Nexus_Core: Memory_Program; Memory_EnablePin: False; Published: 11/10/2004; Publisher: Altium Hobart Technology Center; Memory_DepthB: 64; Memory_WidthB: 32; Memory_ByteWrites: False
pins: ADDRA[5..0] (in), ADDRB[5..0] (in), CLKA (in), CLKB (in), DINA[31..0] (in), DINB[31..0] (in), DOUTA[31..0] (out), DOUTB[31..0] (out), WEA (in), WEB (in)

## RAMD_32x64K
designator U?
Dual Port RAM; Memory_DepthA: 65536; Memory_Type: RAM_DualPortBlock; Memory_WidthA: 32; Memory_ClockEdge: Rising; Nexus_Core: Memory_Program; Memory_EnablePin: False; Published: 11/10/2004; Publisher: Altium Hobart Technology Center; Memory_DepthB: 65536; Memory_WidthB: 32; Memory_ByteWrites: False
pins: ADDRA[15..0] (in), ADDRB[15..0] (in), CLKA (in), CLKB (in), DINA[31..0] (in), DINB[31..0] (in), DOUTA[31..0] (out), DOUTB[31..0] (out), WEA (in), WEB (in)

## RAMD_32x128
designator U?
Dual Port RAM; Memory_DepthA: 128; Memory_Type: RAM_DualPortBlock; Memory_WidthA: 32; Memory_ClockEdge: Rising; Nexus_Core: Memory_Program; Memory_EnablePin: False; Published: 11/10/2004; Publisher: Altium Hobart Technology Center; Memory_DepthB: 128; Memory_WidthB: 32; Memory_ByteWrites: False
pins: ADDRA[6..0] (in), ADDRB[6..0] (in), CLKA (in), CLKB (in), DINA[31..0] (in), DINB[31..0] (in), DOUTA[31..0] (out), DOUTB[31..0] (out), WEA (in), WEB (in)

## RAMD_32x256
designator U?
Dual Port RAM; Memory_DepthA: 256; Memory_Type: RAM_DualPortBlock; Memory_WidthA: 32; Memory_ClockEdge: Rising; Nexus_Core: Memory_Program; Memory_EnablePin: False; Published: 11/10/2004; Publisher: Altium Hobart Technology Center; Memory_DepthB: 256; Memory_WidthB: 32; Memory_ByteWrites: False
pins: ADDRA[7..0] (in), ADDRB[7..0] (in), CLKA (in), CLKB (in), DINA[31..0] (in), DINB[31..0] (in), DOUTA[31..0] (out), DOUTB[31..0] (out), WEA (in), WEB (in)

## RAMD_32x512
designator U?
Dual Port RAM; Memory_DepthA: 512; Memory_Type: RAM_DualPortBlock; Memory_WidthA: 32; Memory_ClockEdge: Rising; Nexus_Core: Memory_Program; Memory_EnablePin: False; Published: 11/10/2004; Publisher: Altium Hobart Technology Center; Memory_DepthB: 512; Memory_WidthB: 32; Memory_ByteWrites: False
pins: ADDRA[8..0] (in), ADDRB[8..0] (in), CLKA (in), CLKB (in), DINA[31..0] (in), DINB[31..0] (in), DOUTA[31..0] (out), DOUTB[31..0] (out), WEA (in), WEB (in)

## RAMDB_16x1K
designator U?
Dual Port RAM, Byte Write Enable; Memory_DepthA: 1024; Memory_Type: RAM_DualPortBlock; Memory_WidthA: 16; Memory_ClockEdge: Rising; Nexus_Core: Memory_Program; Memory_EnablePin: False; Memory_ByteWrites: True; Published: 11/10/2004; Publisher: Altium Hobart Technology Center; Memory_DepthB: 1024; Memory_WidthB: 16
pins: ADDRA[9..0] (in), ADDRB[9..0] (in), ByteWEA[1..0] (in), ByteWEB[1..0] (in), CLKA (in), CLKB (in), DINA[15..0] (in), DINB[15..0] (in), DOUTA[15..0] (out), DOUTB[15..0] (out), WEA (in), WEB (in)

## RAMDB_16x2K
designator U?
Dual Port RAM, Byte Write Enable; Memory_DepthA: 2048; Memory_Type: RAM_DualPortBlock; Memory_WidthA: 16; Memory_ClockEdge: Rising; Nexus_Core: Memory_Program; Memory_EnablePin: False; Memory_ByteWrites: True; Published: 11/10/2004; Publisher: Altium Hobart Technology Center; Memory_DepthB: 2048; Memory_WidthB: 16
pins: ADDRA[10..0] (in), ADDRB[10..0] (in), ByteWEA[1..0] (in), ByteWEB[1..0] (in), CLKA (in), CLKB (in), DINA[15..0] (in), DINB[15..0] (in), DOUTA[15..0] (out), DOUTB[15..0] (out), WEA (in), WEB (in)

## RAMDB_16x4
designator U?
Dual Port RAM, Byte Write Enable; Memory_DepthA: 4; Memory_Type: RAM_DualPortBlock; Memory_WidthA: 16; Memory_ClockEdge: Rising; Nexus_Core: Memory_Program; Memory_EnablePin: False; Memory_ByteWrites: True; Published: 11/10/2004; Publisher: Altium Hobart Technology Center; Memory_DepthB: 4; Memory_WidthB: 16
pins: ADDRA[1..0] (in), ADDRB[1..0] (in), ByteWEA[1..0] (in), ByteWEB[1..0] (in), CLKA (in), CLKB (in), DINA[15..0] (in), DINB[15..0] (in), DOUTA[15..0] (out), DOUTB[15..0] (out), WEA (in), WEB (in)

## RAMDB_16x4K
designator U?
Dual Port RAM, Byte Write Enable; Memory_DepthA: 4096; Memory_Type: RAM_DualPortBlock; Memory_WidthA: 16; Memory_ClockEdge: Rising; Nexus_Core: Memory_Program; Memory_EnablePin: False; Memory_ByteWrites: True; Published: 11/10/2004; Publisher: Altium Hobart Technology Center; Memory_DepthB: 4096; Memory_WidthB: 16
pins: ADDRA[11..0] (in), ADDRB[11..0] (in), ByteWEA[1..0] (in), ByteWEB[1..0] (in), CLKA (in), CLKB (in), DINA[15..0] (in), DINB[15..0] (in), DOUTA[15..0] (out), DOUTB[15..0] (out), WEA (in), WEB (in)

## RAMDB_16x8
designator U?
Dual Port RAM, Byte Write Enable; Memory_DepthA: 8; Memory_Type: RAM_DualPortBlock; Memory_WidthA: 16; Memory_ClockEdge: Rising; Nexus_Core: Memory_Program; Memory_EnablePin: False; Memory_ByteWrites: True; Published: 11/10/2004; Publisher: Altium Hobart Technology Center; Memory_DepthB: 8; Memory_WidthB: 16
pins: ADDRA[2..0] (in), ADDRB[2..0] (in), ByteWEA[1..0] (in), ByteWEB[1..0] (in), CLKA (in), CLKB (in), DINA[15..0] (in), DINB[15..0] (in), DOUTA[15..0] (out), DOUTB[15..0] (out), WEA (in), WEB (in)

## RAMDB_16x8K
designator U?
Dual Port RAM, Byte Write Enable; Memory_DepthA: 8192; Memory_Type: RAM_DualPortBlock; Memory_WidthA: 16; Memory_ClockEdge: Rising; Nexus_Core: Memory_Program; Memory_EnablePin: False; Memory_ByteWrites: True; Published: 11/10/2004; Publisher: Altium Hobart Technology Center; Memory_DepthB: 8192; Memory_WidthB: 16
pins: ADDRA[12..0] (in), ADDRB[12..0] (in), ByteWEA[1..0] (in), ByteWEB[1..0] (in), CLKA (in), CLKB (in), DINA[15..0] (in), DINB[15..0] (in), DOUTA[15..0] (out), DOUTB[15..0] (out), WEA (in), WEB (in)

## RAMDB_16x16
designator U?
Dual Port RAM, Byte Write Enable; Memory_DepthA: 16; Memory_Type: RAM_DualPortBlock; Memory_ClockEdge: Rising; Nexus_Core: Memory_Program; Memory_EnablePin: False; Memory_ByteWrites: True; Published: 11/10/2004; Publisher: Altium Hobart Technology Center; Memory_DepthB: 16; Memory_WidthA: 16; Memory_WidthB: 16
pins: ADDRA[3..0] (in), ADDRB[3..0] (in), ByteWEA[1..0] (in), ByteWEB[1..0] (in), CLKA (in), CLKB (in), DINA[15..0] (in), DINB[15..0] (in), DOUTA[15..0] (out), DOUTB[15..0] (out), WEA (in), WEB (in)

## RAMDB_16x16K
designator U?
Dual Port RAM, Byte Write Enable; Memory_DepthA: 16384; Memory_Type: RAM_DualPortBlock; Memory_WidthA: 16; Memory_ClockEdge: Rising; Nexus_Core: Memory_Program; Memory_EnablePin: False; Memory_ByteWrites: True; Published: 11/10/2004; Publisher: Altium Hobart Technology Center; Memory_DepthB: 16384; Memory_WidthB: 16
pins: ADDRA[13..0] (in), ADDRB[13..0] (in), ByteWEA[1..0] (in), ByteWEB[1..0] (in), CLKA (in), CLKB (in), DINA[15..0] (in), DINB[15..0] (in), DOUTA[15..0] (out), DOUTB[15..0] (out), WEA (in), WEB (in)

## RAMDB_16x32
designator U?
Dual Port RAM, Byte Write Enable; Memory_DepthA: 32; Memory_Type: RAM_DualPortBlock; Memory_WidthA: 16; Memory_ClockEdge: Rising; Nexus_Core: Memory_Program; Memory_EnablePin: False; Memory_ByteWrites: True; Published: 11/10/2004; Publisher: Altium Hobart Technology Center; Memory_DepthB: 32; Memory_WidthB: 16
pins: ADDRA[4..0] (in), ADDRB[4..0] (in), ByteWEA[1..0] (in), ByteWEB[1..0] (in), CLKA (in), CLKB (in), DINA[15..0] (in), DINB[15..0] (in), DOUTA[15..0] (out), DOUTB[15..0] (out), WEA (in), WEB (in)

## RAMDB_16x32K
designator U?
Dual Port RAM, Byte Write Enable; Memory_DepthA: 32768; Memory_Type: RAM_DualPortBlock; Memory_WidthA: 16; Memory_ClockEdge: Rising; Nexus_Core: Memory_Program; Memory_EnablePin: False; Memory_ByteWrites: True; Published: 11/10/2004; Publisher: Altium Hobart Technology Center; Memory_DepthB: 32768; Memory_WidthB: 16
pins: ADDRA[14..0] (in), ADDRB[14..0] (in), ByteWEA[1..0] (in), ByteWEB[1..0] (in), CLKA (in), CLKB (in), DINA[15..0] (in), DINB[15..0] (in), DOUTA[15..0] (out), DOUTB[15..0] (out), WEA (in), WEB (in)

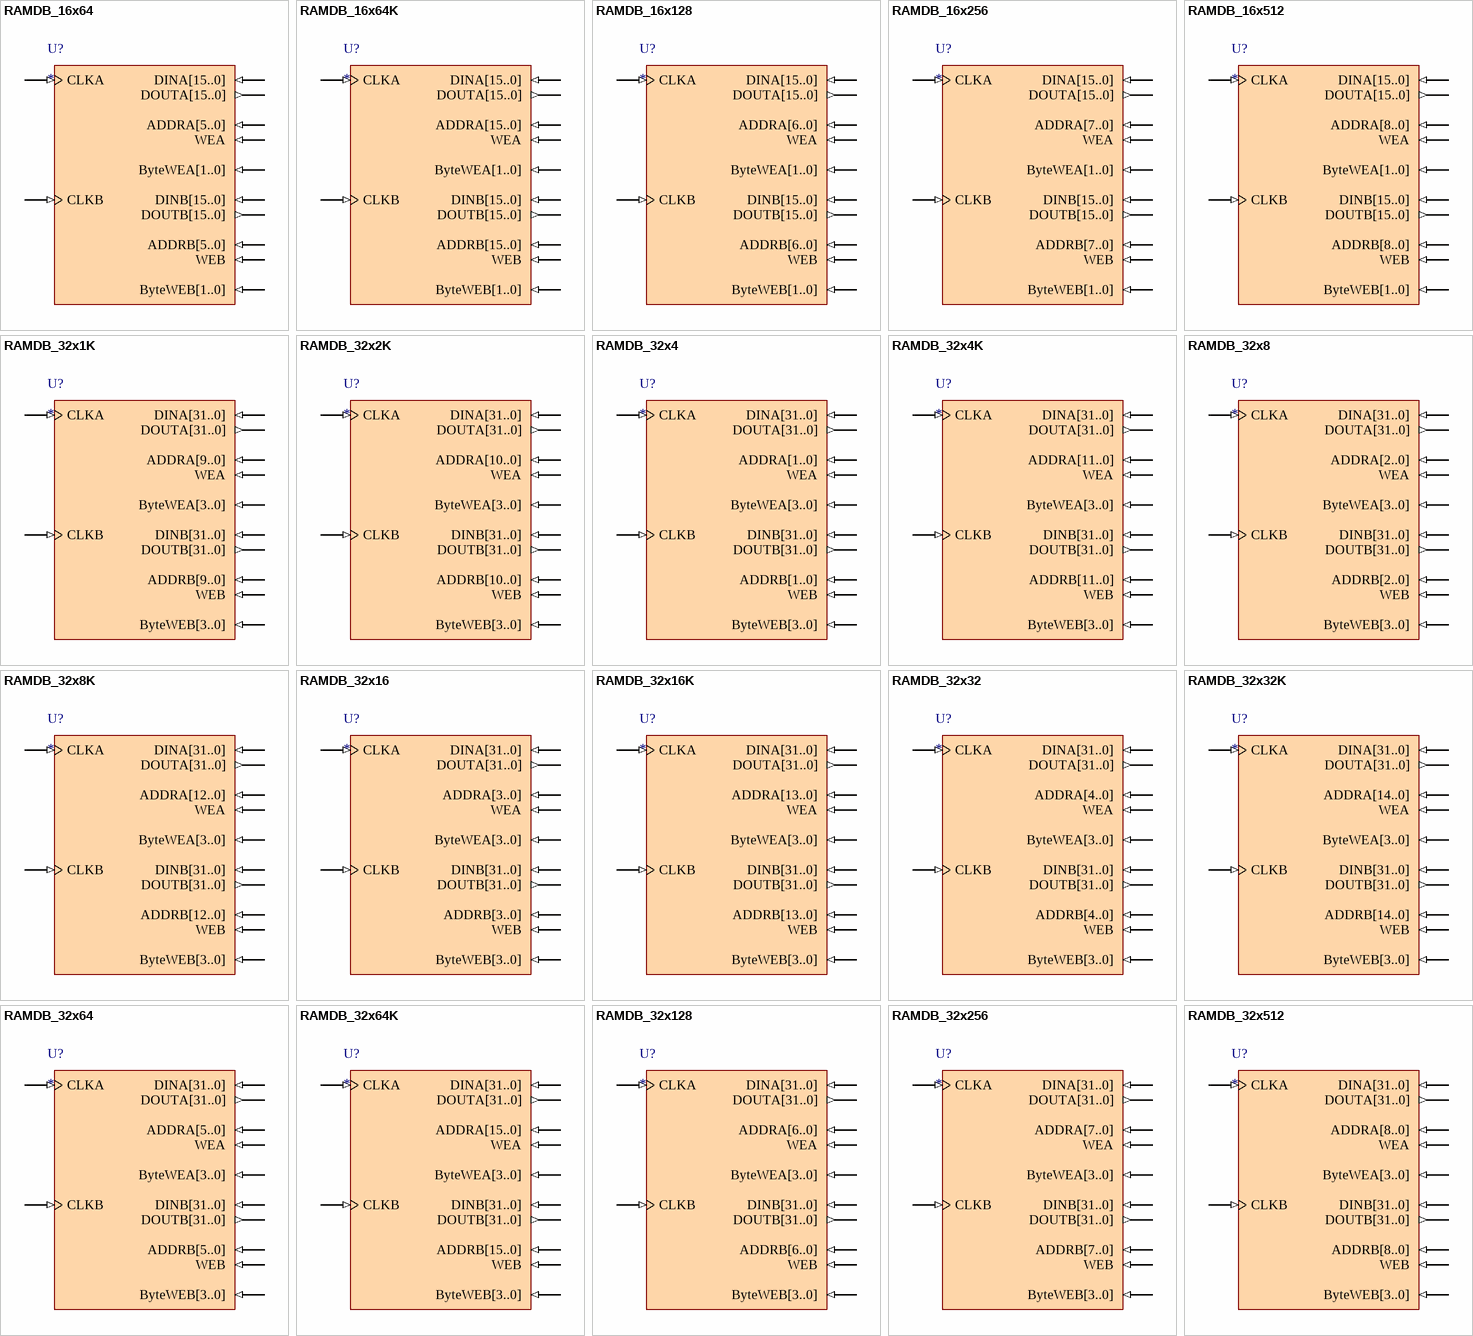
[diagram p3: symbols RAMDB_16x64 to RAMDB_32x512]

## RAMDB_16x64
designator U?
Dual Port RAM, Byte Write Enable; Memory_DepthA: 64; Memory_Type: RAM_DualPortBlock; Memory_WidthA: 16; Memory_ClockEdge: Rising; Nexus_Core: Memory_Program; Memory_EnablePin: False; Memory_ByteWrites: True; Published: 11/10/2004; Publisher: Altium Hobart Technology Center; Memory_DepthB: 64; Memory_WidthB: 16
pins: ADDRA[5..0] (in), ADDRB[5..0] (in), ByteWEA[1..0] (in), ByteWEB[1..0] (in), CLKA (in), CLKB (in), DINA[15..0] (in), DINB[15..0] (in), DOUTA[15..0] (out), DOUTB[15..0] (out), WEA (in), WEB (in)

## RAMDB_16x64K
designator U?
Dual Port RAM, Byte Write Enable; Memory_DepthA: 65536; Memory_Type: RAM_DualPortBlock; Memory_WidthA: 16; Memory_ClockEdge: Rising; Nexus_Core: Memory_Program; Memory_EnablePin: False; Memory_ByteWrites: True; Published: 11/10/2004; Publisher: Altium Hobart Technology Center; Memory_DepthB: 65536; Memory_WidthB: 16
pins: ADDRA[15..0] (in), ADDRB[15..0] (in), ByteWEA[1..0] (in), ByteWEB[1..0] (in), CLKA (in), CLKB (in), DINA[15..0] (in), DINB[15..0] (in), DOUTA[15..0] (out), DOUTB[15..0] (out), WEA (in), WEB (in)

## RAMDB_16x128
designator U?
Dual Port RAM, Byte Write Enable; Memory_DepthA: 128; Memory_Type: RAM_DualPortBlock; Memory_WidthA: 16; Memory_ClockEdge: Rising; Nexus_Core: Memory_Program; Memory_EnablePin: False; Memory_ByteWrites: True; Published: 11/10/2004; Publisher: Altium Hobart Technology Center; Memory_DepthB: 128; Memory_WidthB: 16
pins: ADDRA[6..0] (in), ADDRB[6..0] (in), ByteWEA[1..0] (in), ByteWEB[1..0] (in), CLKA (in), CLKB (in), DINA[15..0] (in), DINB[15..0] (in), DOUTA[15..0] (out), DOUTB[15..0] (out), WEA (in), WEB (in)

## RAMDB_16x256
designator U?
Dual Port RAM, Byte Write Enable; Memory_DepthA: 256; Memory_Type: RAM_DualPortBlock; Memory_WidthA: 16; Memory_ClockEdge: Rising; Nexus_Core: Memory_Program; Memory_EnablePin: False; Memory_ByteWrites: True; Published: 11/10/2004; Publisher: Altium Hobart Technology Center; Memory_DepthB: 256; Memory_WidthB: 16
pins: ADDRA[7..0] (in), ADDRB[7..0] (in), ByteWEA[1..0] (in), ByteWEB[1..0] (in), CLKA (in), CLKB (in), DINA[15..0] (in), DINB[15..0] (in), DOUTA[15..0] (out), DOUTB[15..0] (out), WEA (in), WEB (in)

## RAMDB_16x512
designator U?
Dual Port RAM, Byte Write Enable; Memory_DepthA: 512; Memory_Type: RAM_DualPortBlock; Memory_WidthA: 16; Memory_ClockEdge: Rising; Nexus_Core: Memory_Program; Memory_EnablePin: False; Memory_ByteWrites: True; Published: 11/10/2004; Publisher: Altium Hobart Technology Center; Memory_DepthB: 512; Memory_WidthB: 16
pins: ADDRA[8..0] (in), ADDRB[8..0] (in), ByteWEA[1..0] (in), ByteWEB[1..0] (in), CLKA (in), CLKB (in), DINA[15..0] (in), DINB[15..0] (in), DOUTA[15..0] (out), DOUTB[15..0] (out), WEA (in), WEB (in)

## RAMDB_32x1K
designator U?
Dual Port RAM, Byte Write Enable; Memory_DepthA: 1024; Memory_Type: RAM_DualPortBlock; Memory_WidthA: 32; Memory_ClockEdge: Rising; Nexus_Core: Memory_Program; Memory_EnablePin: False; Memory_ByteWrites: True; Published: 11/10/2004; Publisher: Altium Hobart Technology Center; Memory_DepthB: 1024; Memory_WidthB: 32
pins: ADDRA[9..0] (in), ADDRB[9..0] (in), ByteWEA[3..0] (in), ByteWEB[3..0] (in), CLKA (in), CLKB (in), DINA[31..0] (in), DINB[31..0] (in), DOUTA[31..0] (out), DOUTB[31..0] (out), WEA (in), WEB (in)

## RAMDB_32x2K
designator U?
Dual Port RAM, Byte Write Enable; Memory_DepthA: 2048; Memory_Type: RAM_DualPortBlock; Memory_WidthA: 32; Memory_ClockEdge: Rising; Nexus_Core: Memory_Program; Memory_EnablePin: False; Memory_ByteWrites: True; Published: 11/10/2004; Publisher: Altium Hobart Technology Center; Memory_DepthB: 2048; Memory_WidthB: 32
pins: ADDRA[10..0] (in), ADDRB[10..0] (in), ByteWEA[3..0] (in), ByteWEB[3..0] (in), CLKA (in), CLKB (in), DINA[31..0] (in), DINB[31..0] (in), DOUTA[31..0] (out), DOUTB[31..0] (out), WEA (in), WEB (in)

## RAMDB_32x4
designator U?
Dual Port RAM, Byte Write Enable; Memory_DepthA: 4; Memory_Type: RAM_DualPortBlock; Memory_WidthA: 32; Memory_ClockEdge: Rising; Nexus_Core: Memory_Program; Memory_EnablePin: False; Memory_ByteWrites: True; Published: 11/10/2004; Publisher: Altium Hobart Technology Center; Memory_DepthB: 4; Memory_WidthB: 32
pins: ADDRA[1..0] (in), ADDRB[1..0] (in), ByteWEA[3..0] (in), ByteWEB[3..0] (in), CLKA (in), CLKB (in), DINA[31..0] (in), DINB[31..0] (in), DOUTA[31..0] (out), DOUTB[31..0] (out), WEA (in), WEB (in)

## RAMDB_32x4K
designator U?
Dual Port RAM, Byte Write Enable; Memory_DepthA: 4096; Memory_Type: RAM_DualPortBlock; Memory_WidthA: 32; Memory_ClockEdge: Rising; Nexus_Core: Memory_Program; Memory_EnablePin: False; Memory_ByteWrites: True; Published: 11/10/2004; Publisher: Altium Hobart Technology Center; Memory_DepthB: 4096; Memory_WidthB: 32
pins: ADDRA[11..0] (in), ADDRB[11..0] (in), ByteWEA[3..0] (in), ByteWEB[3..0] (in), CLKA (in), CLKB (in), DINA[31..0] (in), DINB[31..0] (in), DOUTA[31..0] (out), DOUTB[31..0] (out), WEA (in), WEB (in)

## RAMDB_32x8
designator U?
Dual Port RAM, Byte Write Enable; Memory_DepthA: 8; Memory_Type: RAM_DualPortBlock; Memory_WidthA: 32; Memory_ClockEdge: Rising; Nexus_Core: Memory_Program; Memory_EnablePin: False; Memory_ByteWrites: True; Published: 11/10/2004; Publisher: Altium Hobart Technology Center; Memory_DepthB: 8; Memory_WidthB: 32
pins: ADDRA[2..0] (in), ADDRB[2..0] (in), ByteWEA[3..0] (in), ByteWEB[3..0] (in), CLKA (in), CLKB (in), DINA[31..0] (in), DINB[31..0] (in), DOUTA[31..0] (out), DOUTB[31..0] (out), WEA (in), WEB (in)

## RAMDB_32x8K
designator U?
Dual Port RAM, Byte Write Enable; Memory_DepthA: 8192; Memory_Type: RAM_DualPortBlock; Memory_WidthA: 32; Memory_ClockEdge: Rising; Nexus_Core: Memory_Program; Memory_EnablePin: False; Memory_ByteWrites: True; Published: 11/10/2004; Publisher: Altium Hobart Technology Center; Memory_DepthB: 8192; Memory_WidthB: 32
pins: ADDRA[12..0] (in), ADDRB[12..0] (in), ByteWEA[3..0] (in), ByteWEB[3..0] (in), CLKA (in), CLKB (in), DINA[31..0] (in), DINB[31..0] (in), DOUTA[31..0] (out), DOUTB[31..0] (out), WEA (in), WEB (in)

## RAMDB_32x16
designator U?
Dual Port RAM, Byte Write Enable; Memory_DepthA: 16; Memory_Type: RAM_DualPortBlock; Memory_WidthA: 32; Memory_ClockEdge: Rising; Nexus_Core: Memory_Program; Memory_EnablePin: False; Memory_ByteWrites: True; Published: 11/10/2004; Publisher: Altium Hobart Technology Center; Memory_DepthB: 16; Memory_WidthB: 32
pins: ADDRA[3..0] (in), ADDRB[3..0] (in), ByteWEA[3..0] (in), ByteWEB[3..0] (in), CLKA (in), CLKB (in), DINA[31..0] (in), DINB[31..0] (in), DOUTA[31..0] (out), DOUTB[31..0] (out), WEA (in), WEB (in)

## RAMDB_32x16K
designator U?
Dual Port RAM, Byte Write Enable; Memory_DepthA: 16384; Memory_Type: RAM_DualPortBlock; Memory_WidthA: 32; Memory_ClockEdge: Rising; Nexus_Core: Memory_Program; Memory_EnablePin: False; Memory_ByteWrites: True; Published: 11/10/2004; Publisher: Altium Hobart Technology Center; Memory_DepthB: 16384; Memory_WidthB: 32
pins: ADDRA[13..0] (in), ADDRB[13..0] (in), ByteWEA[3..0] (in), ByteWEB[3..0] (in), CLKA (in), CLKB (in), DINA[31..0] (in), DINB[31..0] (in), DOUTA[31..0] (out), DOUTB[31..0] (out), WEA (in), WEB (in)

## RAMDB_32x32
designator U?
Dual Port RAM, Byte Write Enable; Memory_DepthA: 32; Memory_Type: RAM_DualPortBlock; Memory_ClockEdge: Rising; Nexus_Core: Memory_Program; Memory_EnablePin: False; Memory_ByteWrites: True; Published: 11/10/2004; Publisher: Altium Hobart Technology Center; Memory_DepthB: 32; Memory_WidthA: 32; Memory_WidthB: 32
pins: ADDRA[4..0] (in), ADDRB[4..0] (in), ByteWEA[3..0] (in), ByteWEB[3..0] (in), CLKA (in), CLKB (in), DINA[31..0] (in), DINB[31..0] (in), DOUTA[31..0] (out), DOUTB[31..0] (out), WEA (in), WEB (in)

## RAMDB_32x32K
designator U?
Dual Port RAM, Byte Write Enable; Memory_DepthA: 32768; Memory_Type: RAM_DualPortBlock; Memory_WidthA: 32; Memory_ClockEdge: Rising; Nexus_Core: Memory_Program; Memory_EnablePin: False; Memory_ByteWrites: True; Published: 11/10/2004; Publisher: Altium Hobart Technology Center; Memory_DepthB: 32768; Memory_WidthB: 32
pins: ADDRA[14..0] (in), ADDRB[14..0] (in), ByteWEA[3..0] (in), ByteWEB[3..0] (in), CLKA (in), CLKB (in), DINA[31..0] (in), DINB[31..0] (in), DOUTA[31..0] (out), DOUTB[31..0] (out), WEA (in), WEB (in)

## RAMDB_32x64
designator U?
Dual Port RAM, Byte Write Enable; Memory_DepthA: 64; Memory_Type: RAM_DualPortBlock; Memory_WidthA: 32; Memory_ClockEdge: Rising; Nexus_Core: Memory_Program; Memory_EnablePin: False; Memory_ByteWrites: True; Published: 11/10/2004; Publisher: Altium Hobart Technology Center; Memory_DepthB: 64; Memory_WidthB: 32
pins: ADDRA[5..0] (in), ADDRB[5..0] (in), ByteWEA[3..0] (in), ByteWEB[3..0] (in), CLKA (in), CLKB (in), DINA[31..0] (in), DINB[31..0] (in), DOUTA[31..0] (out), DOUTB[31..0] (out), WEA (in), WEB (in)

## RAMDB_32x64K
designator U?
Dual Port RAM, Byte Write Enable; Memory_DepthA: 65536; Memory_Type: RAM_DualPortBlock; Memory_WidthA: 32; Memory_ClockEdge: Rising; Nexus_Core: Memory_Program; Memory_EnablePin: False; Memory_ByteWrites: True; Published: 11/10/2004; Publisher: Altium Hobart Technology Center; Memory_DepthB: 65536; Memory_WidthB: 32
pins: ADDRA[15..0] (in), ADDRB[15..0] (in), ByteWEA[3..0] (in), ByteWEB[3..0] (in), CLKA (in), CLKB (in), DINA[31..0] (in), DINB[31..0] (in), DOUTA[31..0] (out), DOUTB[31..0] (out), WEA (in), WEB (in)

## RAMDB_32x128
designator U?
Dual Port RAM, Byte Write Enable; Memory_DepthA: 128; Memory_Type: RAM_DualPortBlock; Memory_WidthA: 32; Memory_ClockEdge: Rising; Nexus_Core: Memory_Program; Memory_EnablePin: False; Memory_ByteWrites: True; Published: 11/10/2004; Publisher: Altium Hobart Technology Center; Memory_DepthB: 128; Memory_WidthB: 32
pins: ADDRA[6..0] (in), ADDRB[6..0] (in), ByteWEA[3..0] (in), ByteWEB[3..0] (in), CLKA (in), CLKB (in), DINA[31..0] (in), DINB[31..0] (in), DOUTA[31..0] (out), DOUTB[31..0] (out), WEA (in), WEB (in)

## RAMDB_32x256
designator U?
Dual Port RAM, Byte Write Enable; Memory_DepthA: 256; Memory_Type: RAM_DualPortBlock; Memory_WidthA: 32; Memory_ClockEdge: Rising; Nexus_Core: Memory_Program; Memory_EnablePin: False; Memory_ByteWrites: True; Published: 11/10/2004; Publisher: Altium Hobart Technology Center; Memory_DepthB: 256; Memory_WidthB: 32
pins: ADDRA[7..0] (in), ADDRB[7..0] (in), ByteWEA[3..0] (in), ByteWEB[3..0] (in), CLKA (in), CLKB (in), DINA[31..0] (in), DINB[31..0] (in), DOUTA[31..0] (out), DOUTB[31..0] (out), WEA (in), WEB (in)

## RAMDB_32x512
designator U?
Dual Port RAM, Byte Write Enable; Memory_DepthA: 512; Memory_Type: RAM_DualPortBlock; Memory_WidthA: 32; Memory_ClockEdge: Rising; Nexus_Core: Memory_Program; Memory_EnablePin: False; Memory_ByteWrites: True; Published: 11/10/2004; Publisher: Altium Hobart Technology Center; Memory_DepthB: 512; Memory_WidthB: 32
pins: ADDRA[8..0] (in), ADDRB[8..0] (in), ByteWEA[3..0] (in), ByteWEB[3..0] (in), CLKA (in), CLKB (in), DINA[31..0] (in), DINB[31..0] (in), DOUTA[31..0] (out), DOUTB[31..0] (out), WEA (in), WEB (in)

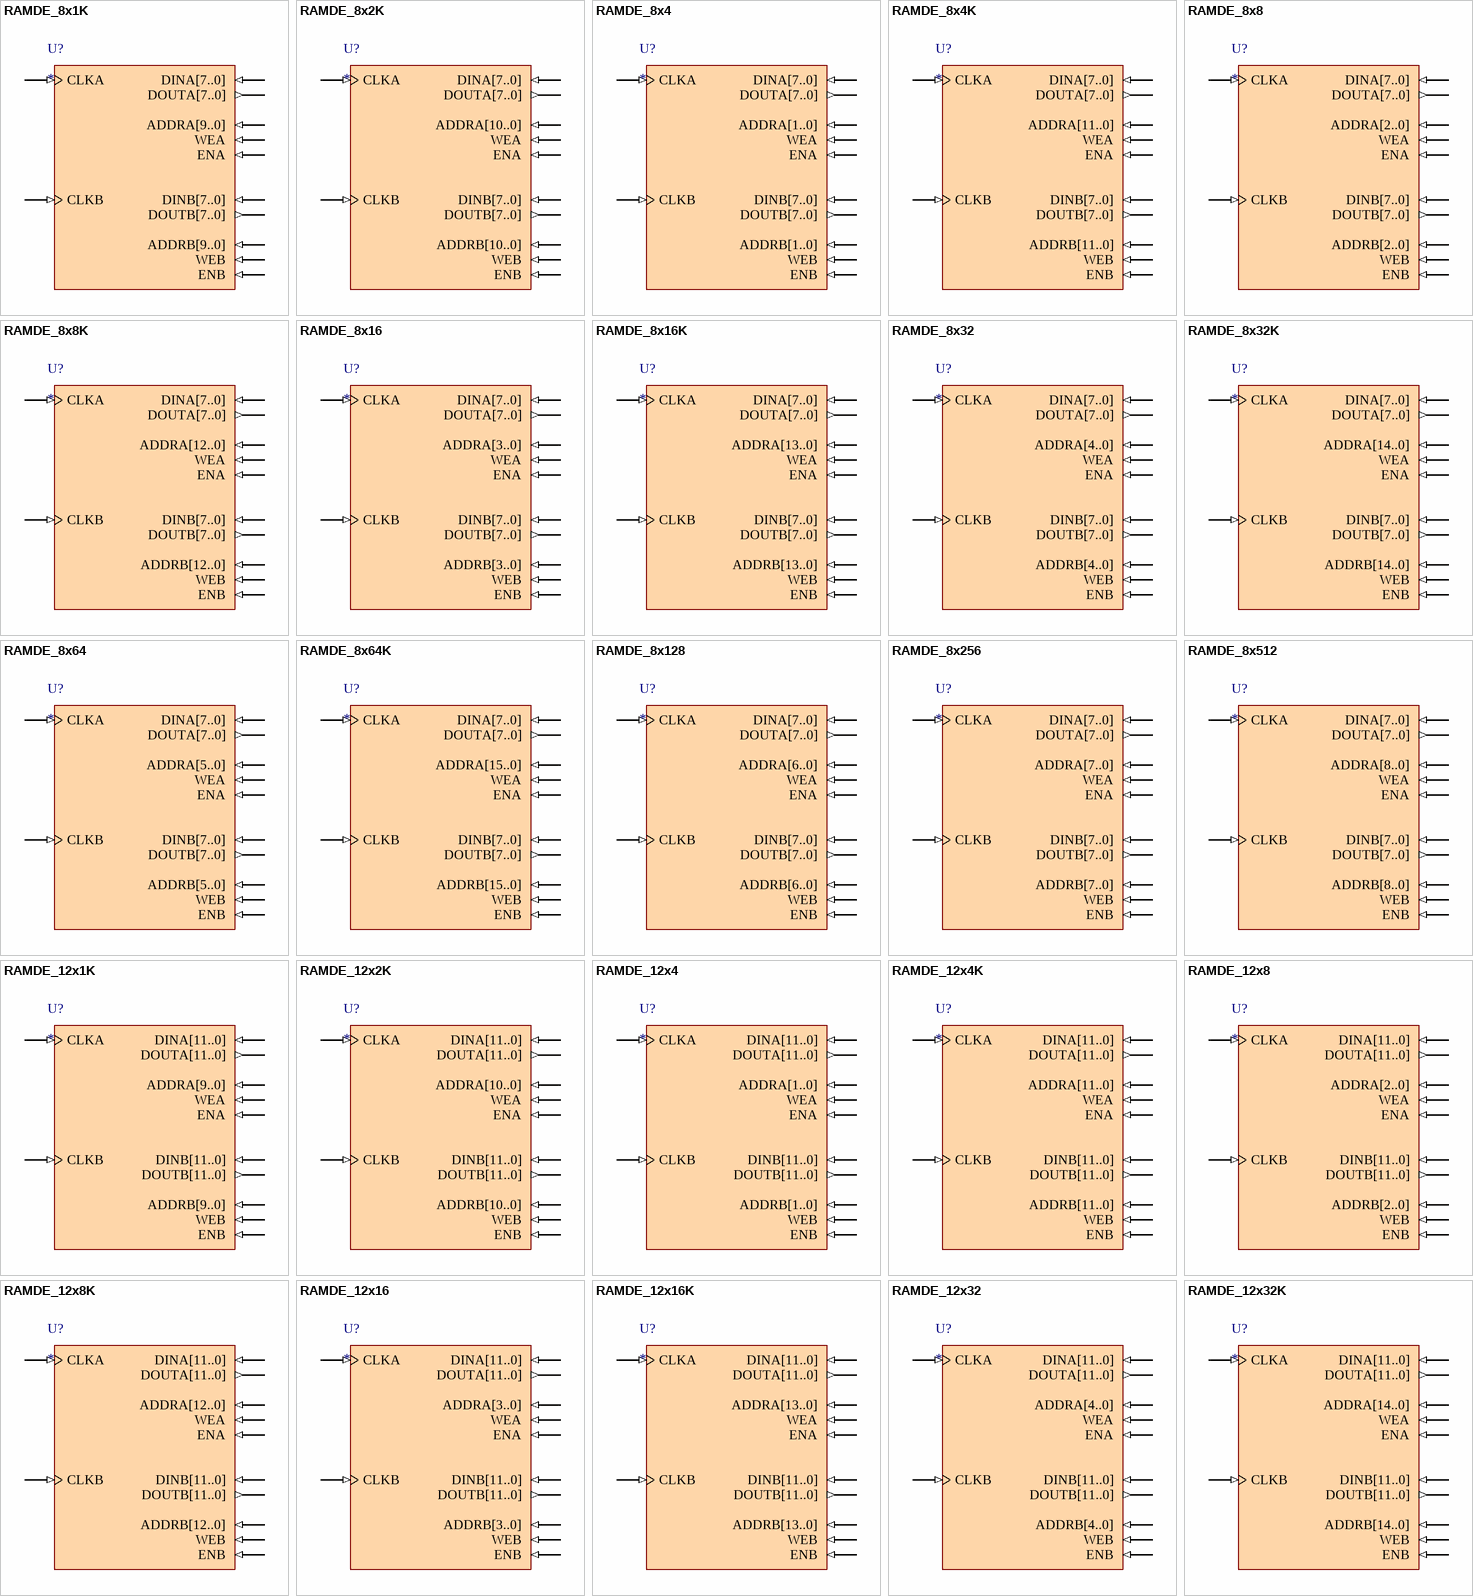
[diagram p4: symbols RAMDE_8x1K to RAMDE_12x32K]

## RAMDE_8x1K
designator U?
Dual Port RAM, Enable; Memory_DepthA: 1024; Memory_Type: RAM_DualPortBlock; Memory_WidthA: 8; Memory_ClockEdge: Rising; Nexus_Core: Memory_Program; Memory_EnablePin: True; Memory_ByteWrites: False; Published: 11/10/2004; Publisher: Altium Hobart Technology Center; Memory_DepthB: 1024; Memory_WidthB: 8
pins: ADDRA[9..0] (in), ADDRB[9..0] (in), CLKA (in), CLKB (in), DINA[7..0] (in), DINB[7..0] (in), DOUTA[7..0] (out), DOUTB[7..0] (out), ENA (in), ENB (in), WEA (in), WEB (in)

## RAMDE_8x2K
designator U?
Dual Port RAM, Enable; Memory_DepthA: 2048; Memory_Type: RAM_DualPortBlock; Memory_WidthA: 8; Memory_ClockEdge: Rising; Nexus_Core: Memory_Program; Memory_EnablePin: True; Memory_ByteWrites: False; Published: 11/10/2004; Publisher: Altium Hobart Technology Center; Memory_DepthB: 2048; Memory_WidthB: 8
pins: ADDRA[10..0] (in), ADDRB[10..0] (in), CLKA (in), CLKB (in), DINA[7..0] (in), DINB[7..0] (in), DOUTA[7..0] (out), DOUTB[7..0] (out), ENA (in), ENB (in), WEA (in), WEB (in)

## RAMDE_8x4
designator U?
Dual Port RAM, Enable; Memory_DepthA: 4; Memory_Type: RAM_DualPortBlock; Memory_WidthA: 8; Memory_ClockEdge: Rising; Nexus_Core: Memory_Program; Memory_EnablePin: True; Memory_ByteWrites: False; Published: 11/10/2004; Publisher: Altium Hobart Technology Center; Memory_DepthB: 4; Memory_WidthB: 8
pins: ADDRA[1..0] (in), ADDRB[1..0] (in), CLKA (in), CLKB (in), DINA[7..0] (in), DINB[7..0] (in), DOUTA[7..0] (out), DOUTB[7..0] (out), ENA (in), ENB (in), WEA (in), WEB (in)

## RAMDE_8x4K
designator U?
Dual Port RAM, Enable; Memory_DepthA: 4096; Memory_Type: RAM_DualPortBlock; Memory_WidthA: 8; Memory_ClockEdge: Rising; Nexus_Core: Memory_Program; Memory_EnablePin: True; Memory_ByteWrites: False; Published: 11/10/2004; Publisher: Altium Hobart Technology Center; Memory_DepthB: 4096; Memory_WidthB: 8
pins: ADDRA[11..0] (in), ADDRB[11..0] (in), CLKA (in), CLKB (in), DINA[7..0] (in), DINB[7..0] (in), DOUTA[7..0] (out), DOUTB[7..0] (out), ENA (in), ENB (in), WEA (in), WEB (in)

## RAMDE_8x8
designator U?
Dual Port RAM, Enable; Memory_DepthA: 8; Memory_Type: RAM_DualPortBlock; Memory_ClockEdge: Rising; Nexus_Core: Memory_Program; Memory_EnablePin: True; Memory_ByteWrites: False; Published: 11/10/2004; Publisher: Altium Hobart Technology Center; Memory_DepthB: 8; Memory_WidthA: 8; Memory_WidthB: 8
pins: ADDRA[2..0] (in), ADDRB[2..0] (in), CLKA (in), CLKB (in), DINA[7..0] (in), DINB[7..0] (in), DOUTA[7..0] (out), DOUTB[7..0] (out), ENA (in), ENB (in), WEA (in), WEB (in)

## RAMDE_8x8K
designator U?
Dual Port RAM, Enable; Memory_DepthA: 8192; Memory_Type: RAM_DualPortBlock; Memory_WidthA: 8; Memory_ClockEdge: Rising; Nexus_Core: Memory_Program; Memory_EnablePin: True; Memory_ByteWrites: False; Published: 11/10/2004; Publisher: Altium Hobart Technology Center; Memory_DepthB: 8192; Memory_WidthB: 8
pins: ADDRA[12..0] (in), ADDRB[12..0] (in), CLKA (in), CLKB (in), DINA[7..0] (in), DINB[7..0] (in), DOUTA[7..0] (out), DOUTB[7..0] (out), ENA (in), ENB (in), WEA (in), WEB (in)

## RAMDE_8x16
designator U?
Dual Port RAM, Enable; Memory_DepthA: 16; Memory_Type: RAM_DualPortBlock; Memory_WidthA: 8; Memory_ClockEdge: Rising; Nexus_Core: Memory_Program; Memory_EnablePin: True; Memory_ByteWrites: False; Published: 11/10/2004; Publisher: Altium Hobart Technology Center; Memory_DepthB: 16; Memory_WidthB: 8
pins: ADDRA[3..0] (in), ADDRB[3..0] (in), CLKA (in), CLKB (in), DINA[7..0] (in), DINB[7..0] (in), DOUTA[7..0] (out), DOUTB[7..0] (out), ENA (in), ENB (in), WEA (in), WEB (in)

## RAMDE_8x16K
designator U?
Dual Port RAM, Enable; Memory_DepthA: 16384; Memory_Type: RAM_DualPortBlock; Memory_WidthA: 8; Memory_ClockEdge: Rising; Nexus_Core: Memory_Program; Memory_EnablePin: True; Memory_ByteWrites: False; Published: 11/10/2004; Publisher: Altium Hobart Technology Center; Memory_DepthB: 16384; Memory_WidthB: 8
pins: ADDRA[13..0] (in), ADDRB[13..0] (in), CLKA (in), CLKB (in), DINA[7..0] (in), DINB[7..0] (in), DOUTA[7..0] (out), DOUTB[7..0] (out), ENA (in), ENB (in), WEA (in), WEB (in)